# Altium schematic symbol library S-D00300.SchLib: 1 symbol
Pins are listed as number, name and electrical type; pins without a type are passive.

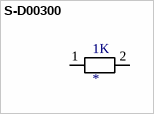
[diagram p0: symbol S-D00300]

## S-D00300
designator 1K
pins: 1, 2